# EAGLE library part BQ27441-G1 (library BatteryChargerandManagement)
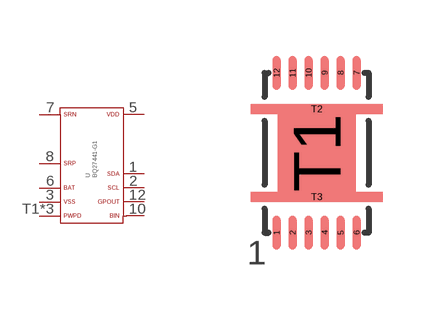
[diagram p1: symbol with the pads of SON-12; footprint SON-12]

Designator prefix U

## BQ27441-G1  [SON-12]
1  SDA  pas
2  SCL  pas
3  VSS  pas
5  VDD  pas
6  BAT  pas
7  SRN  pas
8  SRP  pas
10  BIN  pas
12  GPOUT  pas
T1  PWPD  pas
T2  PWPD  pas
T3  PWPD  pas

## Footprint SON-12 (pad centres in mm)
smd 0.2 x 0.85: 1 -1,-2; 2 -0.6,-2; 3 -0.2,-2; 4 0.2,-2; 5 0.6,-2; 6 1,-2; 7 1,2; 8 0.6,2; 9 0.2,2; 10 -0.2,2; 11 -0.6,2; 12 -1,2
smd 1.95 x 2.45: T1 0,0
smd 3.3 x 0.25: T2 0,1.1; T3 0,-1.1